# Altium schematic symbol library 440054-2.SchLib: 1 symbol
Pins are listed as number, name and electrical type; pins without a type are passive.

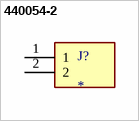
[diagram p0: symbol 440054-2]

## 440054-2
designator J?
HPI Series; 2mm Pitch 2 Way 1 Row Straight PCB Header; Solder Termination; 3A; MF: TE Connectivity; MP: 440054-2; Check_prices: https://www.snapeda.com/parts/440054-2/TE+Connectivity+AMP+Connectors/view-part/?ref=eda; Value: *; Purchase-URL: https://pricing.snapeda.com/search/part/440054-2/?ref=eda; Price: None; EU_RoHS_Compliance: Compliant; SnapEDA_Link: https://www.snapeda.com/parts/440054-2/TE+Connectivity+AMP+Connectors/view-part/?ref=snap; Availability: In Stock; Package: None
footprint TE_440054-2
pins: 1, 2